# EAGLE library part ADUM1400 (library hsk_2012)
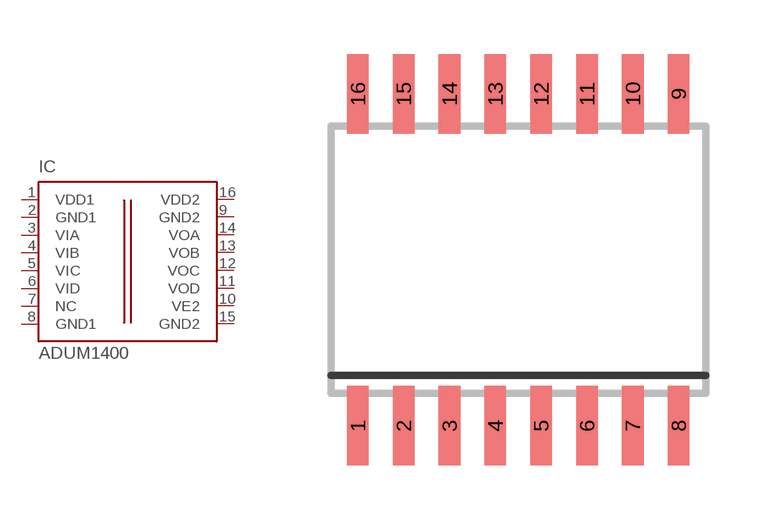
[diagram p23: symbol with the pads of SO-16W; footprint SO-16W]

Designator prefix IC

## ADUM1400  [SO-16W]
1  VDD1  sup
2  GND1  sup
3  VIA  in
4  VIB  in
5  VIC  in
6  VID  in
7  NC  nc
8  GND1  sup
9  GND2  sup
10  VE2  sup
11  VOD  out
12  VOC  out
13  VOB  out
14  VOA  out
15  GND2  sup
16  VDD2  sup

## Footprint SO-16W (pad centres in mm)
16-Lead (Wide Body) Small Outline Package (R-16) Source: http://www.analog.com/UploadedFiles/Data_Sheets/409317160AD421_c.pdf
smd 0.6 x 2.2: 1 -4.445,-4.6; 2 -3.175,-4.6; 3 -1.905,-4.6; 4 -0.635,-4.6; 5 0.635,-4.6; 6 1.905,-4.6; 7 3.175,-4.6; 8 4.445,-4.6; 9 4.445,4.6; 10 3.175,4.6; 11 1.905,4.6; 12 0.635,4.6; 13 -0.635,4.6; 14 -1.905,4.6; 15 -3.175,4.6; 16 -4.445,4.6